# Altium footprint library SHDR14W65P254_2X7_2012X975X1110P.PcbLib: 1 footprints
Each footprint in its own frame and in the unit in brackets; x right, y up, seen from the top. Pads: shape width x height; smd on the part's side, far side on the other; paste and mask are expansions set on the pad; w line width, h text height; cw(c..) or ccw(c..) is an arc to the next point about the centre after c.
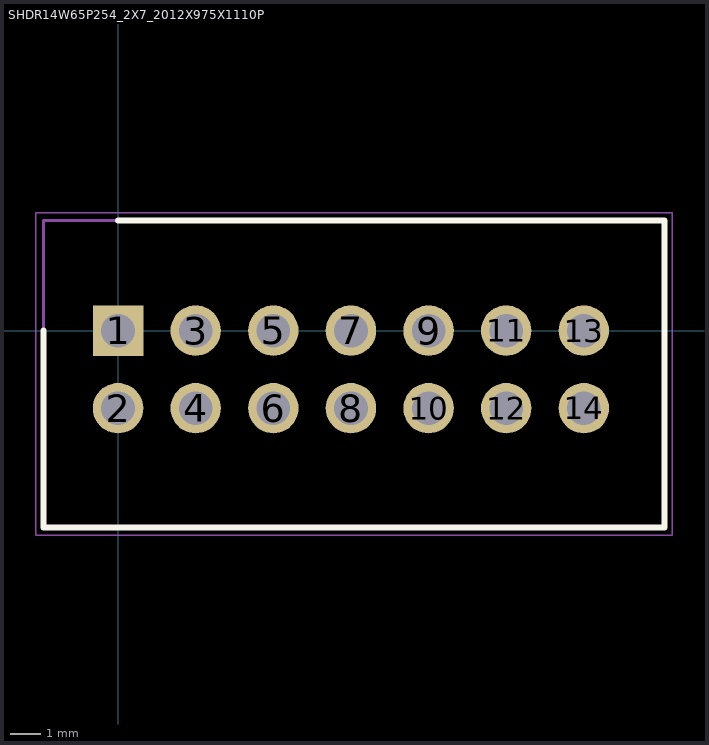
[diagram p0: the footprint, top view; thin cyan lines are the x and y axes]

## SHDR14W65P254_2X7_2012X975X1110P [mm]
pads (14):
  rect 1.65x1.65 / inner round 1.65 / far side rect 1.65x1.65 hole 1.1: 1(0,0)
  round 1.65 hole 1.1: 2(0,-2.54) 3(2.54,0) 4(2.54,-2.54) 5(5.08,0) 6(5.08,-2.54) 7(7.62,0) 8(7.62,-2.54) 9(10.16,0) 10(10.16,-2.54) 11(12.7,0) 12(12.7,-2.54) 13(15.24,0) 14(15.24,-2.54)
Top Overlay:
  lines w0.2: -2.44,0 -2.44,-6.445 17.88,-6.445 17.88,3.605 0,3.605
Mechanical 15:
  lines w0.1: -2.44,-6.445 17.88,-6.445 17.88,3.605 -2.44,3.605 -2.44,-6.445
Mechanical 20:
  lines w0.05: -2.69,-6.695 18.13,-6.695 18.13,3.855 -2.69,3.855 -2.69,-6.695